# EAGLE library part DISP_LCD_2.8IN (library ENGI_301_sun_clock)
2.8" TFT LCD with Touchscreen Breakout Board w/MicroSD Socket - ILI9341
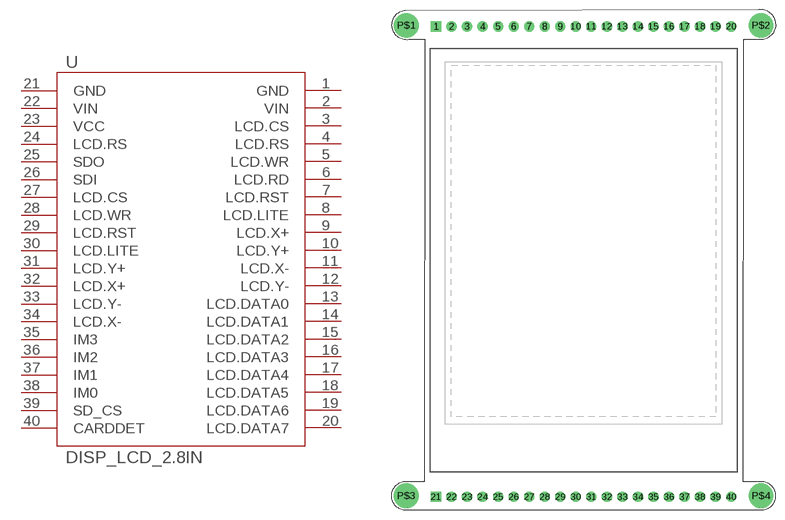
[diagram p2: symbol with the pads of DISP_LCD_2.8IN; footprint DISP_LCD_2.8IN]

Designator prefix U

## DISP_LCD_2.8IN  [DISP_LCD_2.8IN]
1  GND
2  VIN
3  LCD.CS
4  LCD.RS
5  LCD.WR
6  LCD.RD
7  LCD.RST
8  LCD.LITE
9  LCD.X+
10  LCD.Y+
11  LCD.X-
12  LCD.Y-
13  LCD.DATA0
14  LCD.DATA1
15  LCD.DATA2
16  LCD.DATA3
17  LCD.DATA4
18  LCD.DATA5
19  LCD.DATA6
20  LCD.DATA7
21  GND
22  VIN
23  VCC
24  LCD.RS
25  SDO
26  SDI
27  LCD.CS
28  LCD.WR
29  LCD.RST
30  LCD.LITE
31  LCD.Y+
32  LCD.X+
33  LCD.Y-
34  LCD.X-
35  IM3
36  IM2
37  IM1
38  IM0
39  SD_CS
40  CARDDET

## Footprint DISP_LCD_2.8IN (pad centres in mm)
drill 1 pad 1.676 square: 1 -24.13,36.83; 21 -24.13,-40.17
drill 1 pad 1.676: 2 -21.59,36.83; 3 -19.05,36.83; 4 -16.51,36.83; 5 -13.97,36.83; 6 -11.43,36.83; 7 -8.89,36.83; 8 -6.35,36.83; 9 -3.81,36.83; 10 -1.27,36.83; 11 1.27,36.83; 12 3.81,36.83; 13 6.35,36.83; 14 8.89,36.83; 15 11.43,36.83; 16 13.97,36.83; 17 16.51,36.83; 18 19.05,36.83; 19 21.59,36.83; 20 24.13,36.83; 22 -21.59,-40.17; 23 -19.05,-40.17; 24 -16.51,-40.17; 25 -13.97,-40.17; 26 -11.43,-40.17; 27 -8.89,-40.17; 28 -6.35,-40.17; 29 -3.81,-40.17; 30 -1.27,-40.17; 31 1.27,-40.17; 32 3.81,-40.17; 33 6.35,-40.17; 34 8.89,-40.17; 35 11.43,-40.17; 36 13.97,-40.17; 37 16.51,-40.17; 38 19.05,-40.17; 39 21.59,-40.17; 40 24.13,-40.17
drill 3 pad 3.6: P$1 -29,37; P$2 29,37; P$3 -29,-40; P$4 29,-40